# Altium schematic symbol library 1731070255.SchLib: 1 symbol
Pins are listed as number, name and electrical type; pins without a type are passive.

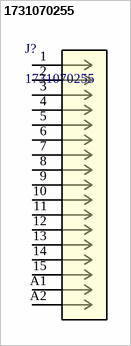
[diagram p0: symbol 1731070255]

## 1731070255
designator J?
FCT Mixed Layout D-Sub Connector, Male, Right-Angle, PCB Through Hole, Gold Plating, Tin-plated Shell with Dimples, 14.50mm Riveted Metal Bracket and #4-40 Clinch Nut, 17 Circuits Loaded (2 High Power, 15 Signal), Heat Resistant Natural Insulator; Manufacturer_Name: Molex Connector Corporation; Copyright: Copyright (C) 2025 Ultra Librarian. All rights reserved.; Manufacturer_Part_Number: 1731070255; RefDes: RefDes; Type: Type
footprint CONN_FH17W2P5-1343_MOL
pins: 1, 2, 3, 4, 5, 6, 7, 8, 9, 10, 11, 12, 13, 14, 15, A1, A2